# EAGLE library part 690367190672 (library Wurth_Connectors_WR-MM)
WR-MM Female Connector with Latch & w/o Polarization KIND PROPERTIES: Pitch 2.54 mm Gender:Female MATERIAL PROPERTIES: Insulator Material:PBT Insulator Flammability Rating UL94 V-0 Insulator Color:Red Contact Material :Phosphor Bronze Contact Plating :Mat Tin over Nickel Contact Type: Stamped GENERAL PROPERTIES: Operating Temperature:-40 °C up to +105 °C Compliance Lead free / RoHS ELECTRICAL PROPERTIES: Working Voltage 100 V (AC) Withstanding Voltage:500 V (AC) Contact Resistance: 10 mΩ Insulation Resistance:1000 MΩ PACKAGING PROPERTIES: cULus Approval:E323964 Packaging :Tube <https://katalog.we-online.com/media/images/v2/o33160v209%20Family_WR-MM_69036719xx72.jpg> Details see: Web1:https://katalog.we-online.com/en/em/MM_1_27_FEMALE_CONNECTOR_WITH_LATCH_W_O_POLARIZATION_69036719XX72_2_2 Web2:https://katalog.we-online.com/en/em/MM_1_27_FEMALE_CONNECTOR_WITH_LATCH_W_O_POLARIZATION_69036719XX72 Updated by Yingchun,Shan 2019-10-28 2019 (C) Würth Elektronik
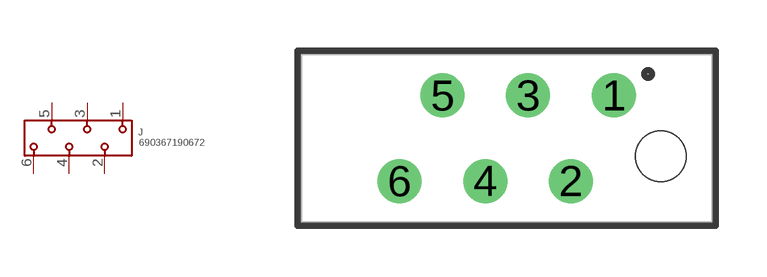
[diagram p80: symbol with the pads of 690367190672; footprint 690367190672]

Designator prefix J

## 690367190672 (DATASHEET-URL: https://www.we-online.com/catalog/datasheet/690367190672.pdf; GENDER: Female; IR: 1.5A; PACKAGING: Tube; PART-NUMBER: 690367190672; PINS: 6; PITCH: 2.54; TYPE: Straight; VALUE: 690367190672)  [690367190672]
1  1  pas
2  2  pas
3  3  pas
4  4  pas
5  5  pas
6  6  pas

## Footprint 690367190672 (pad centres in mm)
WR-MM Female Connector with Latch & w/o Polarization, 6 Pins
drill 0.8: 1 3.175,1.27; 2 1.905,-1.27; 3 0.635,1.27; 4 -0.635,-1.27; 5 -1.905,1.27; 6 -3.175,-1.27
hole 1.5 at 4.575,-0.53